# Altium footprint library RES55.PcbLib: 1 footprints
Each footprint in its own frame and in the unit in brackets; x right, y up, seen from the top. Pads: shape width x height; smd on the part's side, far side on the other; paste and mask are expansions set on the pad; w line width, h text height; cw(c..) or ccw(c..) is an arc to the next point about the centre after c.
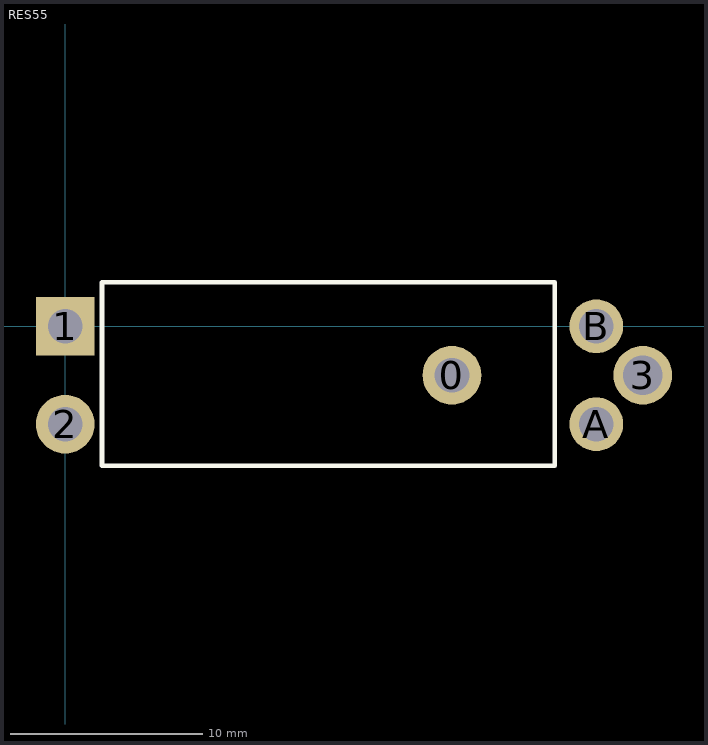
[diagram p0: the footprint, top view; thin cyan lines are the x and y axes]

## RES55 [mil]
pads (6):
  round 120 hole 71: 0(790,-100) 2(0,-200)
  rect 120x120 hole 71: 1(0,0)
  round 120 hole 80: 3(1180,-100)
  round 110 hole 71: A(1085,-200) B(1085,0)
Top Overlay:
  lines w10: 75,-285 75,90 1000,90 1000,-285 75,-285
Mechanical 15:
  text "'.Designator'" at 88.8,-148.83 h118.11
3D body "RES55A.STEP": height 381.89, standoff -196.85, extent -21.65,-283.47 1200.79,86.61